# EAGLE library part CYBLE-022001-00 (library NicksParts)
This is a Cypress pre-certified BLE module.
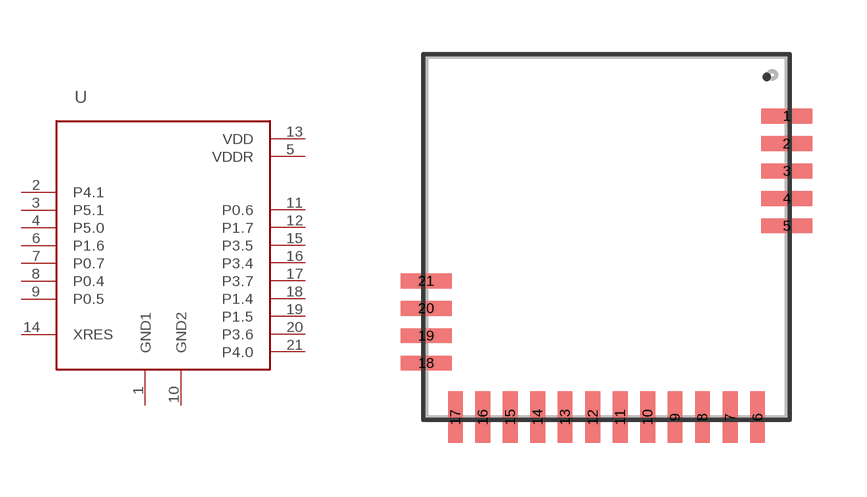
[diagram p20: symbol with the pads of CYBLE-022001-00; footprint CYBLE-022001-00]

Designator prefix U

## CYBLE-022001-00  [CYBLE-022001-00]
1  GND1
2  P4.1
3  P5.1
4  P5.0
5  VDDR
6  P1.6
7  P0.7
8  P0.4
9  P0.5
10  GND2
11  P0.6
12  P1.7
13  VDD
14  XRES
15  P3.5
16  P3.4
17  P3.7
18  P1.4
19  P1.5
20  P3.6
21  P4.0

## Footprint CYBLE-022001-00 (pad centres in mm)
smd 1.42 x 0.41: 1 5,3.36; 2 5,2.59; 3 5,1.83; 4 5,1.07; 5 5,0.31; 18 -5,-3.5; 19 -5,-2.74; 20 -5,-1.98; 21 -5,-1.22
smd 0.41 x 1.42: 6 4.19,-5; 7 3.43,-5; 8 2.66,-5; 9 1.9,-5; 10 1.14,-5; 11 0.38,-5; 12 -0.38,-5; 13 -1.15,-5; 14 -1.91,-5; 15 -2.67,-5; 16 -3.43,-5; 17 -4.19,-5